# Altium integrated library Switcher.IntLib: 13 symbols
Pins are listed as number, name and electrical type; pins without a type are passive.

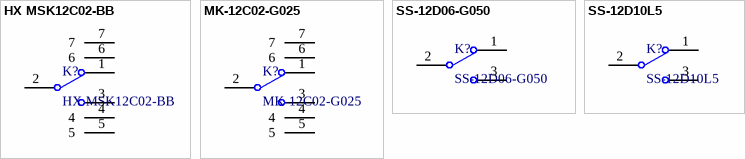
[diagram p0: symbols HX MSK12C02-BB to SS-12D10L5]

## HX MSK12C02-BB
designator K?
hanxia(韩下) 拨动开关 MSK12C02两档侧拨贴片 7脚拨动 白柄,柄长1.5mm,带定位柱; 制造商: G-Switch(品赞); 封装: SMD; 类别: 滑动开关; 子类别: 单刀双掷; 安装方式: SMD贴片; 长宽高: 16.6mm*1.4mm*5.2mm; 额定电压: 6V; 额定电流: 1A; 作用力: -
pins: 1, 2, 3, 4, 5, 6, 7

## MK-12C02-G025
designator K?
G-Switch(品赞) MK-12C02-G025 柄长2.5mm 滑动开关; 封装: SMD; 子类别: 单刀双掷; 安装方式: SMD贴片; 长宽高: 16.6mm*1.4mm*5.2mm; 额定电压: 6V; 额定电流: 1A; 制造商: G-Switch(品赞); 类别: 滑动开关; 作用力: -
footprint MK-12C02-G025 (G-Switch(品赞) MK-12C02-G025 柄长2.5mm 滑动开关 推荐封装)
pins: 1, 2, 3, 4, 5, 6, 7

## SS-12D06-G050
designator K?
G-Switch(品赞) SS-12D06G5 柄长5mm 滑动开关; 封装: DIP; 子类别: 单刀双掷; 安装方式: 直插; 长宽高: 12.7mm*6.6mm*11.4mm; 额定电压: 250V; 额定电流: 3A; 制造商: G-Switch(品赞); 类别: 滑动开关; 作用力: -
footprint SS12D06G5 (G-Switch(品赞) SS-12D06G5 柄长5mm 滑动开关 推荐封装)
pins: 1, 2, 3

## SS-12D10L5
designator K?
XKB Connection(中国星坤) SS-12D10L5 柄长5mm 直插双档 滑动开关; 封装: DIP; 子类别: 单刀双掷; 安装方式: 直插; 长宽高: 13mm*6.8mm*6.4mm; 额定电压: 125V; 制造商: XKB Connection(中国星坤); 类别: 滑动开关; 作用力: -
footprint SS-12D10L5 (XKB Connection(中国星坤) SS-12D10L5 直插滑动开关推荐封装 / 孔径待确认，比3D模型小一点)
pins: 1, 2, 3


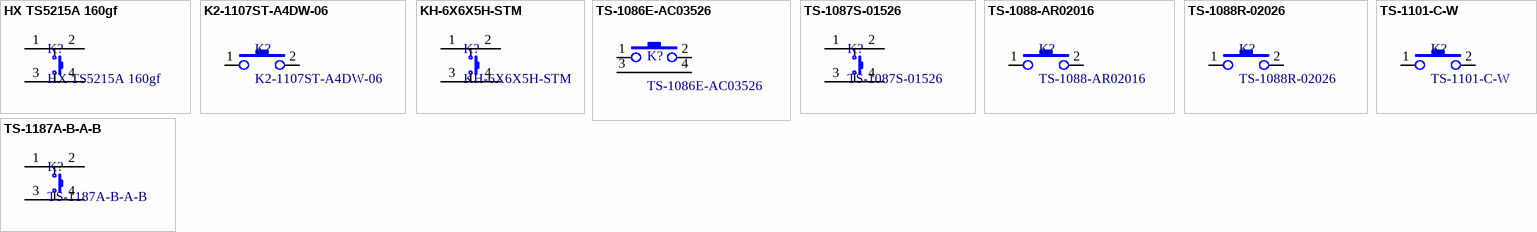
[diagram p1: symbols HX TS5215A 160gf to TS-1187A-B-A-B]

## HX TS5215A 160gf
designator K?
hanxia(韩下)  轻触开关贴片 5.2x5.2x1.5mm 铜头按键开关 160gf 立式开关; 封装: SMD; 类别: 轻触开关; 子类别: 单刀单掷; 作用力: 1.6N; 安装方式: 立贴; 长宽高: 5.2mm*5.2mm*1.5mm; 额定电压: 12V; 制造商: hanxia(韩下)
footprint HX TS5215A 160gf (hanxia(韩下) 5.2*5.2*1.5 金属贴片开关推荐焊盘封装)
pins: 1, 2, 3, 4

## K2-1107ST-A4DW-06
designator K?
制造商: 韩国韩荣; 封装: SMD-6.1x3.6x2.5mm; 类别: 轻触开关; 子类别: 单刀单掷; 作用力: 2.5N; 安装方式: 立贴; 长宽高: 6.1mm*3.6mm*2.5mm; 额定电压: 12V
footprint K2-1107ST-A4DW-06
pins: 1, 2

## KH-6X6X5H-STM
designator K?
kinghelm(金航标) 轻触开关 6*6*5mm 立贴; 封装: SMD-6.0x6.0x5.0mm; 子类别: 单刀单掷; 长宽高: 5.1mm*5.1mm*1.5mm; 额定电压: 12V; 制造商: kinghelm(金航标); 类别: 轻触开关; 安装方式: 立贴
footprint KH-6X6X5H-STM
pins: 1, 2, 3, 4

## TS-1086E-AC03526
designator K?
制造商: XUNPU(讯普); 封装: SMD; 类别: 轻触开关; 子类别: 单刀单掷; 作用力: 2.6N; 安装方式: 卧; 长宽高: 4.6mm*1.82mm*3.5mm; 额定电压: 12V
footprint XUNPU-TS-1086E-AC03526 (XUNPU(讯普) 4.6*1.82*3.5 金属贴片开关推荐焊盘封装)
pins: 1, 2, 3, 4

## TS-1087S-01526
designator K?
XUNPU(讯普)  5.2*5.2*1.5mm 立贴 轻触开关; 封装: SMD; 子类别: 单刀单掷; 长宽高: 5.2mm*5.2mm*1.5mm; 额定电压: 12V; 制造商: XUNPU(讯普); 类别: 轻触开关; 作用力: -; 安装方式: 立贴
footprint XUNPU-TS-1087S-01526 (XUNPU(讯普) 5.2*5.2*1.5 金属贴片开关推荐焊盘封装)
pins: 1, 2, 3, 4

## TS-1088-AR02016
designator K?
制造商: XUNPU(讯普); 封装: SMD-4.0×3.0×2.0mm; 类别: 轻触开关; 子类别: 单刀单掷; 作用力: 1.6N; 安装方式: 立贴; 长宽高: 4.0mm*3.0mm*2.0mm; 额定电压: 12V
footprint TS-1088x-2016 (XUNPU(讯普) 贴片无柱轻触开关 4*3*2 推荐焊盘封装)
pins: 1, 2

## TS-1088R-02026
designator K?
制造商: XUNPU(讯普); 封装: SMD-4.0×3.0×2.0mm; 类别: 轻触开关; 子类别: 单刀单掷; 安装方式: 立贴; 长宽高: 3.9mm*2.93mm*2.0mm; 额定电压: 12V; 作用力: -
footprint TS-1088x-2016 (XUNPU(讯普) 贴片无柱轻触开关 4*3*2 推荐焊盘封装)
pins: 1, 2

## TS-1101-C-W
designator K?
制造商: XKB Connection(中国星坤); 封装: SMD-6x3.6x2.5mm; 类别: 轻触开关; 子类别: 单刀单掷; 作用力: 2.6N; 安装方式: 立贴; 长宽高: 6.0mm*3.6mm*2.5mm; 额定电压: 12V
footprint TS-1101-C-W
pins: 1, 2

## TS-1187A-B-A-B
designator K?
制造商: XKB Connection(中国星坤); 封装: SMD-5.1x5.1x1.5mm; 类别: 轻触开关; 子类别: 单刀单掷; 作用力: 1.6N; 安装方式: 立贴; 长宽高: 5.1mm*5.1mm*1.5mm; 额定电压: 12V
footprint TS-1187A-B-A-B (XKB Connection(中国星坤) 5.1*5.1*1.5 金属贴片开关推荐焊盘封装)
pins: 1, 2, 3, 4